# Altium footprint library SamacSys.PcbLib: 13 footprints
Each footprint in its own frame and in the unit in brackets; x right, y up, seen from the top. Pads: shape width x height; smd on the part's side, far side on the other; paste and mask are expansions set on the pad; w line width, h text height; cw(c..) or ccw(c..) is an arc to the next point about the centre after c.
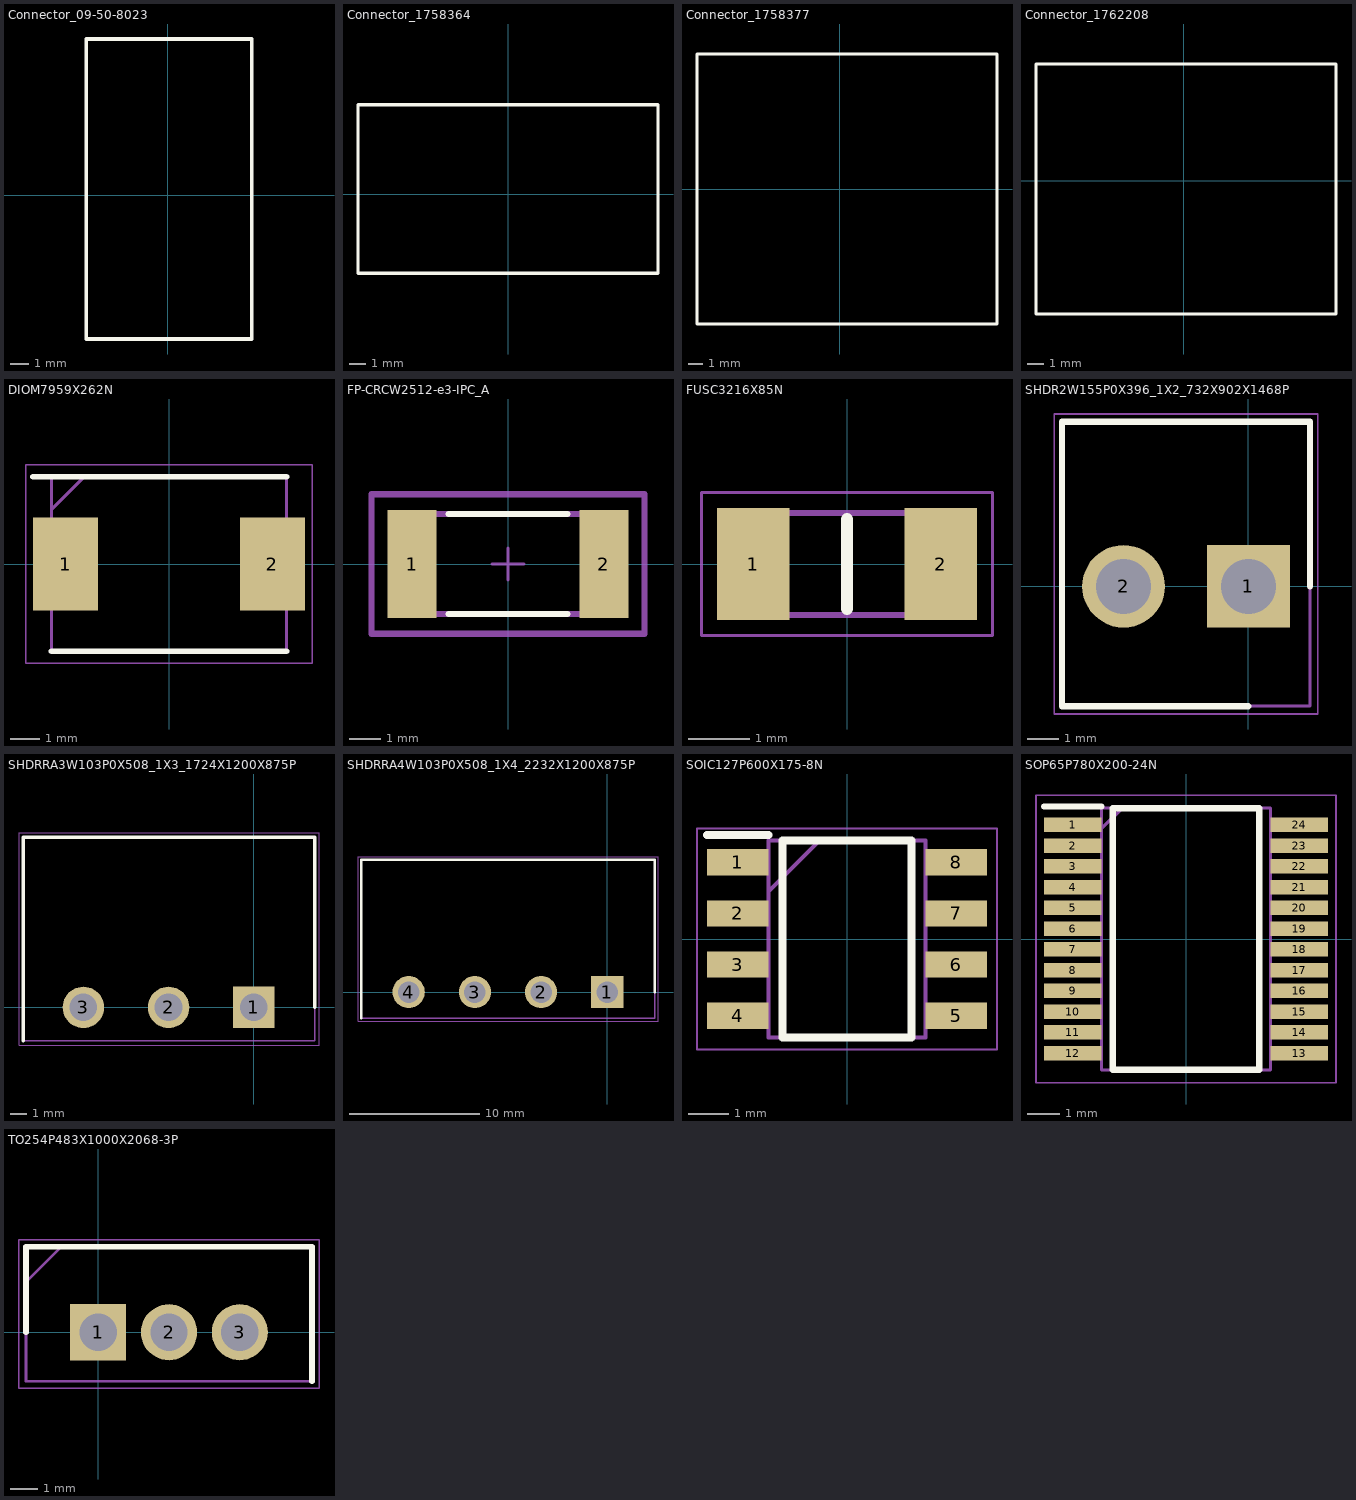
[diagram p0: the footprints below, top view; thin cyan lines are the x and y axes]

## Connector_09-50-8023 [mm]
Top Overlay:
  lines w0.203: -4.318,-7.62 -4.318,8.255 4.445,8.255 4.445,-7.62 -4.318,-7.62
3D body "09-50-8023.stp": height 9.7, standoff 0.05, extent -4.343,-7.556 4.445,8.319

## Connector_1758364 [mm]
Top Overlay:
  lines w0.203: -9.144,-4.826 -9.144,5.461 9.144,5.461 9.144,-4.826 -9.144,-4.826
3D body "pxc_1758364_05_MSTB-2-5-2-ST-5-08-BD-1-2_3D.stp": height 15.03, standoff 0.03, extent -9.15,-4.759 9.15,5.461

## Connector_1758377 [mm]
Top Overlay:
  lines w0.203: -9.652,-9.144 10.668,-9.144 10.668,9.144 -9.652,9.144 -9.652,-9.144
3D body "c-796635-4-h-3d.stp": height 15.56, standoff 0.06, extent -9.652,-9.2 10.668,9.2

## Connector_1762208 [mm]
Top Overlay:
  lines w0.203: -9.017,-8.128 -9.017,7.112 9.271,7.112 9.271,-8.128 -9.017,-8.128
3D body "pxc_1762208_05_MSTB-2-5-3-ST-5-08-BD-1-3_3D.stp": height 15.05, standoff 0.05, extent -8.993,-8.158 9.307,7.142

## DIOM7959X262N [mm]
pads (2):
  rect 2.2x3.15 smd: 1(-3.5,0) 2(3.5,0)
Top Overlay:
  lines w0.2: -4.6,2.952 3.97,2.952 ; -3.97,-2.952 3.97,-2.952
Mechanical 13:
  lines w0.1: -3.97,1.852 -2.87,2.952 ; -3.97,-2.952 3.97,-2.952 3.97,2.952 -3.97,2.952 -3.97,-2.952
Mechanical 15:
  lines w0.05: -4.85,-3.36 4.85,-3.36 4.85,3.36 -4.85,3.36 -4.85,-3.36
3D body "SS34-E3_57T.stp": height 2.62, standoff 0, extent -3.97,-2.953 3.97,2.953

## FP-CRCW2512-e3-IPC_A [mm]
pads (2):
  rect 1.555x3.408 smd paste+0 mask+0: 1(-3.026,0) 2(3.026,0)
Top Overlay:
  lines w0.2: -1.873,-1.575 1.873,-1.575 ; -1.873,1.575 1.873,1.575
Top 3D Body:
  lines w0.2: -3.15,-1.575 3.15,-1.575 3.15,1.575 -3.15,1.575 -3.15,-1.575
Top Assembly:
  lines w0.2: -4.303,-2.204 4.303,-2.204 4.303,2.204 -4.303,2.204 -4.303,-2.204
  text ".Designator" at 0,0.188 h1
Top Courtyard:
  lines w0.2: -4.303,-2.204 4.303,-2.204 4.303,2.204 -4.303,2.204 -4.303,-2.204
Top Component Center:
  lines w0.1: -0.5,0 0.5,0 ; 0,-0.5 0,0.5
3D body "Res_Vishay_CRCW25121K80FKEG_eec.STEP": height 0.25, standoff 0, extent -4.303,-2.204 4.303,2.204

## FUSC3216X85N [mm]
pads (2):
  rect 1.17x1.82 smd: 1(-1.52,0) 2(1.52,0)
Top Overlay:
  lines w0.2: 0,-0.725 0,0.725
Mechanical 13:
  lines w0.1: -1.625,-0.825 -1.625,0.825 1.625,0.825 1.625,-0.825 -1.625,-0.825
Mechanical 15:
  lines w0.05: -2.355,-1.16 -2.355,1.16 2.355,1.16 2.355,-1.16 -2.355,-1.16
3D body "0ZCJ0005FF2E.stp": height 0.85, standoff 0, extent -1.625,-0.825 1.625,0.825

## SHDR2W155P0X396_1X2_732X902X1468P [mm]
pads (2):
  rect 2.625x2.625 hole 1.75: 1(0,0)
  round 2.625 hole 1.75: 2(-3.96,0)
Top Overlay:
  lines w0.2: 0,-3.8 -5.915,-3.8 -5.915,5.22 1.955,5.22 1.955,0
Mechanical 13:
  lines w0.1: -5.915,-3.8 1.955,-3.8 1.955,5.22 -5.915,5.22 -5.915,-3.8
Mechanical 15:
  lines w0.05: -6.165,-4.05 2.205,-4.05 2.205,5.47 -6.165,5.47 -6.165,-4.05
3D body "26-48-1025.stp": height 14.68, standoff -4.37, extent -5.643,-4.51 1.683,4.51

## SHDRRA3W103P0X508_1X3_1724X1200X875P [mm]
pads (3):
  rect 2.475x2.475 hole 1.65: 1(0,0)
  round 2.475 hole 1.65: 2(-5.08,0) 3(-10.16,0)
Top Overlay:
  lines w0.2: -13.75,-2 -13.75,10.15 3.64,10.15 3.64,0
Mechanical 13:
  lines w0.1: -13.75,-2 -13.75,10.15 3.64,10.15 3.64,-2 -13.75,-2
Mechanical 15:
  lines w0.05: -14,-2.25 -14,10.4 3.89,10.4 3.89,-2.25 -14,-2.25
3D body "1757255.stp": height 8.75, standoff -3.7, extent -13.7,-2 3.54,10

## SHDRRA4W103P0X508_1X4_2232X1200X875P [mm]
pads (4):
  rect 2.475x2.475 hole 1.65: 1(0,0)
  round 2.475 hole 1.65: 2(-5.08,0) 3(-10.16,0) 4(-15.24,0)
Top Overlay:
  lines w0.2: -18.88,-2 -18.88,10.15 3.64,10.15 3.64,0
Mechanical 13:
  lines w0.1: -18.88,-2 -18.88,10.15 3.64,10.15 3.64,-2 -18.88,-2
Mechanical 15:
  lines w0.05: -19.13,-2.25 -19.13,10.4 3.89,10.4 3.89,-2.25 -19.13,-2.25
3D body "1757268.stp": height 8.75, standoff -3.7, extent -18.78,-2 3.54,10

## SOIC127P600X175-8N [mm]
pads (8):
  rect 1.525x0.65 smd: 1(-2.712,1.905) 2(-2.712,0.635) 3(-2.712,-0.635) 4(-2.712,-1.905) 5(2.712,-1.905) 6(2.712,-0.635) 7(2.712,0.635) 8(2.712,1.905)
Top Overlay:
  lines w0.2: -3.475,2.58 -1.95,2.58 ; -1.6,-2.45 1.6,-2.45 1.6,2.45 -1.6,2.45 -1.6,-2.45
Mechanical 13:
  lines w0.1: -1.95,1.18 -0.68,2.45 ; -1.95,-2.45 1.95,-2.45 1.95,2.45 -1.95,2.45 -1.95,-2.45
Mechanical 15:
  lines w0.05: -3.725,-2.75 3.725,-2.75 3.725,2.75 -3.725,2.75 -3.725,-2.75
3D body "NE555DR.stp": height 1.75, standoff 0, extent -3,-2.45 3,2.45

## SOP65P780X200-24N [mm]
pads (24):
  rect 1.8x0.45 smd: 1(-3.55,3.575) 2(-3.55,2.925) 3(-3.55,2.275) 4(-3.55,1.625) 5(-3.55,0.975) 6(-3.55,0.325) 7(-3.55,-0.325) 8(-3.55,-0.975) 9(-3.55,-1.625) 10(-3.55,-2.275) 11(-3.55,-2.925) 12(-3.55,-3.575) 13(3.55,-3.575) 14(3.55,-2.925) 15(3.55,-2.275) 16(3.55,-1.625) 17(3.55,-0.975) 18(3.55,-0.325) 19(3.55,0.325) 20(3.55,0.975) 21(3.55,1.625) 22(3.55,2.275) 23(3.55,2.925) 24(3.55,3.575)
Top Overlay:
  lines w0.2: -4.45,4.15 -2.65,4.15 ; -2.3,-4.1 2.3,-4.1 2.3,4.1 -2.3,4.1 -2.3,-4.1
Mechanical 13:
  lines w0.1: -2.65,3.45 -2,4.1 ; -2.65,-4.1 2.65,-4.1 2.65,4.1 -2.65,4.1 -2.65,-4.1
Mechanical 15:
  lines w0.05: -4.7,-4.5 4.7,-4.5 4.7,4.5 -4.7,4.5 -4.7,-4.5
3D body "LTC3780EG#PBF.stp": height 2, standoff 0, extent -3.9,-4.1 3.9,4.1

## TO254P483X1000X2068-3P [mm]
pads (3):
  rect 2.01x2.01 hole 1.34: 1(0,0)
  round 2.01 hole 1.34: 2(2.54,0) 3(5.08,0)
Top Overlay:
  lines w0.2: -2.59,0 -2.59,3.07 7.67,3.07 7.67,-1.76
Mechanical 13:
  lines w0.1: -2.59,1.8 -1.32,3.07 ; -2.59,-1.76 7.67,-1.76 7.67,3.07 -2.59,3.07 -2.59,-1.76
Mechanical 15:
  lines w0.05: -2.84,-2.01 7.92,-2.01 7.92,3.32 -2.84,3.32 -2.84,-2.01
3D body "VF30100S-E3_4W.stp": height 19.53, standoff -17.27, extent -2.462,-1.76 7.542,3.07